# Altium schematic symbol library WE-LAN AQ.SchLib: 6 symbols
Pins are listed as number, name and electrical type; pins without a type are passive.

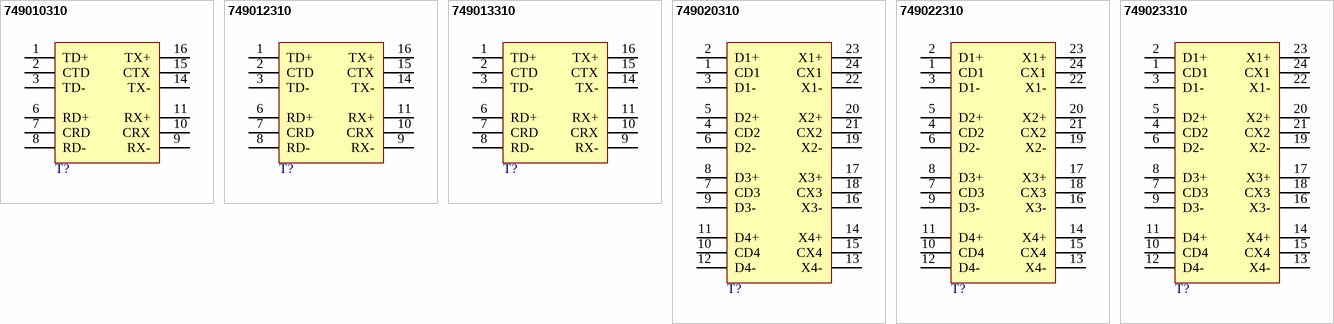
[diagram p0: symbols 749010310 to 749023310]

## 749010310
designator T?, comment 10/100 Base-T, 1 Port  (value not drawn)
WE-LAN AQ Transformer, SMT, 10/100 Base-T, 1 Port, non-PoE, 350uH; Manufacturer Part Number: 749010310; Manufacturer: Wurth Elektronik; HPLE: No; Insulation Test Voltage: 1500Vrms; Number of Ports: 1; Category: Signal Transformers; Match Code: WE-LAN AQ; ComponentLink1Description: Website Link; ComponentLink1URL: https://www.we-online.com/redexpert/article/749010310?ad; ComponentLink2Description: Datasheet Link; ComponentLink2URL: https://www.we-online.com/redexpert/spec/749010310?ad; Mount: Surface Mount; Operating Temperature Max: 85°C; Operating Temperature Min: -40°C; Packaging: Tape and Reel; Length: 12.7mm; Width: 8.67mm; Height: 4.25mm; Data Rate: 10/100 Base-T; Inductance: 350uH; Number of Pins: 16; PoE: non-PoE
footprint 749010310
pins: 1 TD+, 2 CTD, 3 TD-, 6 RD+, 7 CRD, 8 RD-, 9 RX-, 10 CRX, 11 RX+, 14 TX-, 15 CTX, 16 TX+

## 749012310
designator T?, comment 10/100 Base-T, 1 Port  (value not drawn)
WE-LAN AQ Transformer, SMT, 10/100 Base-T, 1 Port, PoE+ (up to 720 mA), 150uH; Manufacturer Part Number: 749012310; Manufacturer: Wurth Elektronik; HPLE: No; Insulation Test Voltage: 1500Vrms; Number of Ports: 1; Category: Signal Transformers; Match Code: WE-LAN AQ; ComponentLink1Description: Website Link; ComponentLink1URL: https://www.we-online.com/redexpert/article/749012310?ad; ComponentLink2Description: Datasheet Link; ComponentLink2URL: https://www.we-online.com/redexpert/spec/749012310?ad; Mount: Surface Mount; Operating Temperature Max: 85°C; Operating Temperature Min: -40°C; Packaging: Tape and Reel; Length: 12.7mm; Width: 8.67mm; Height: 4mm; Data Rate: 10/100 Base-T; Inductance: 150uH; Number of Pins: 16; PoE: PoE+ (up to 720 mA)
footprint 749012310
pins: 1 TD+, 2 CTD, 3 TD-, 6 RD+, 7 CRD, 8 RD-, 9 RX-, 10 CRX, 11 RX+, 14 TX-, 15 CTX, 16 TX+

## 749013310
designator T?, comment 10/100 Base-T, 1 Port  (value not drawn)
WE-LAN AQ Transformer, SMT, 10/100 Base-T, 1 Port, PoE (up to 350 mA), 180uH; Manufacturer Part Number: 749013310; Manufacturer: Wurth Elektronik; HPLE: No; Insulation Test Voltage: 1500Vrms; Number of Ports: 1; Category: Signal Transformers; Match Code: WE-LAN AQ; ComponentLink1Description: Website Link; ComponentLink1URL: https://www.we-online.com/redexpert/article/749013310?ad; ComponentLink2Description: Datasheet Link; ComponentLink2URL: https://www.we-online.com/redexpert/spec/749013310?ad; Mount: Surface Mount; Operating Temperature Max: 85°C; Operating Temperature Min: -40°C; Packaging: Tape and Reel; Length: 12.7mm; Width: 8.67mm; Height: 4mm; Data Rate: 10/100 Base-T; Inductance: 180uH; Number of Pins: 16; PoE: PoE (up to 350 mA)
footprint 749013310
pins: 1 TD+, 2 CTD, 3 TD-, 6 RD+, 7 CRD, 8 RD-, 9 RX-, 10 CRX, 11 RX+, 14 TX-, 15 CTX, 16 TX+

## 749020310
designator T?, comment 10/100/1000 Base-T, 1 Port  (value not drawn)
WE-LAN AQ Transformer, SMT, 10/100/1000 Base-T, 1 Port, non-PoE, 350uH; Manufacturer Part Number: 749020310; Manufacturer: Wurth Elektronik; HPLE: No; Insulation Test Voltage: 1500Vrms; Number of Ports: 1; Category: Signal Transformers; Match Code: WE-LAN AQ; ComponentLink1Description: Website Link; ComponentLink1URL: https://www.we-online.com/redexpert/article/749020310?ad; ComponentLink2Description: Datasheet Link; ComponentLink2URL: https://www.we-online.com/redexpert/spec/749020310?ad; Mount: Surface Mount; Operating Temperature Max: 105°C; Operating Temperature Min: -40°C; Packaging: Tape and Reel; Length: 17.53mm; Width: 14.6mm; Height: 4.5mm; Data Rate: 10/100/1000 Base-T; Inductance: 350uH; Number of Pins: 24; PoE: non-PoE
footprint 749020310
pins: 1 CD1, 2 D1+, 3 D1-, 4 CD2, 5 D2+, 6 D2-, 7 CD3, 8 D3+, 9 D3-, 10 CD4, 11 D4+, 12 D4-, 13 X4-, 14 X4+, 15 CX4, 16 X3-, 17 X3+, 18 CX3, 19 X2-, 20 X2+, 21 CX2, 22 X1-, 23 X1+, 24 CX1

## 749022310
designator T?, comment 1000 Base-T, 1 Port  (value not drawn)
WE-LAN AQ Transformer, SMT, 1000 Base-T, 1 Port, PoE+ (up to 720 mA), 150uH; Manufacturer Part Number: 749022310; Manufacturer: Wurth Elektronik; HPLE: No; Insulation Test Voltage: 1500Vrms; Number of Ports: 1; Category: Signal Transformers; Match Code: WE-LAN AQ; ComponentLink1Description: Website Link; ComponentLink1URL: https://www.we-online.com/redexpert/article/749022310?ad; ComponentLink2Description: Datasheet Link; ComponentLink2URL: https://www.we-online.com/redexpert/spec/749022310?ad; Mount: Surface Mount; Operating Temperature Max: 85°C; Operating Temperature Min: -40°C; Packaging: Tape and Reel; Length: 16.5mm; Width: 10.3mm; Height: 4.1mm; Data Rate: 1000 Base-T; Inductance: 150uH; Number of Pins: 24; PoE: PoE+ (up to 720 mA)
footprint 749022310
pins: 1 CD1, 2 D1+, 3 D1-, 4 CD2, 5 D2+, 6 D2-, 7 CD3, 8 D3+, 9 D3-, 10 CD4, 11 D4+, 12 D4-, 13 X4-, 14 X4+, 15 CX4, 16 X3-, 17 X3+, 18 CX3, 19 X2-, 20 X2+, 21 CX2, 22 X1-, 23 X1+, 24 CX1

## 749023310
designator T?, comment 1000 Base-T, 1 Port  (value not drawn)
WE-LAN AQ Transformer, SMT, 1000 Base-T, 1 Port, PoE (up to 350 mA), 180uH; Manufacturer Part Number: 749023310; Manufacturer: Wurth Elektronik; HPLE: No; Insulation Test Voltage: 1500Vrms; Number of Ports: 1; Category: Signal Transformers; Match Code: WE-LAN AQ; ComponentLink1Description: Website Link; ComponentLink1URL: https://www.we-online.com/redexpert/article/749023310?ad; ComponentLink2Description: Datasheet Link; ComponentLink2URL: https://www.we-online.com/redexpert/spec/749023310?ad; Mount: Surface Mount; Operating Temperature Max: 105°C; Operating Temperature Min: -40°C; Packaging: Tape and Reel; Length: 16.5mm; Width: 10.3mm; Height: 4.1mm; Data Rate: 1000 Base-T; Inductance: 180uH; Number of Pins: 24; PoE: PoE (up to 350 mA)
footprint 749023310
pins: 1 CD1, 2 D1+, 3 D1-, 4 CD2, 5 D2+, 6 D2-, 7 CD3, 8 D3+, 9 D3-, 10 CD4, 11 D4+, 12 D4-, 13 X4-, 14 X4+, 15 CX4, 16 X3-, 17 X3+, 18 CX3, 19 X2-, 20 X2+, 21 CX2, 22 X1-, 23 X1+, 24 CX1